# EAGLE library part 74ALS804N (library EW_IC_74_Logic)
digital 2-input nand gate. Category: Gates Manufacturer: Generic
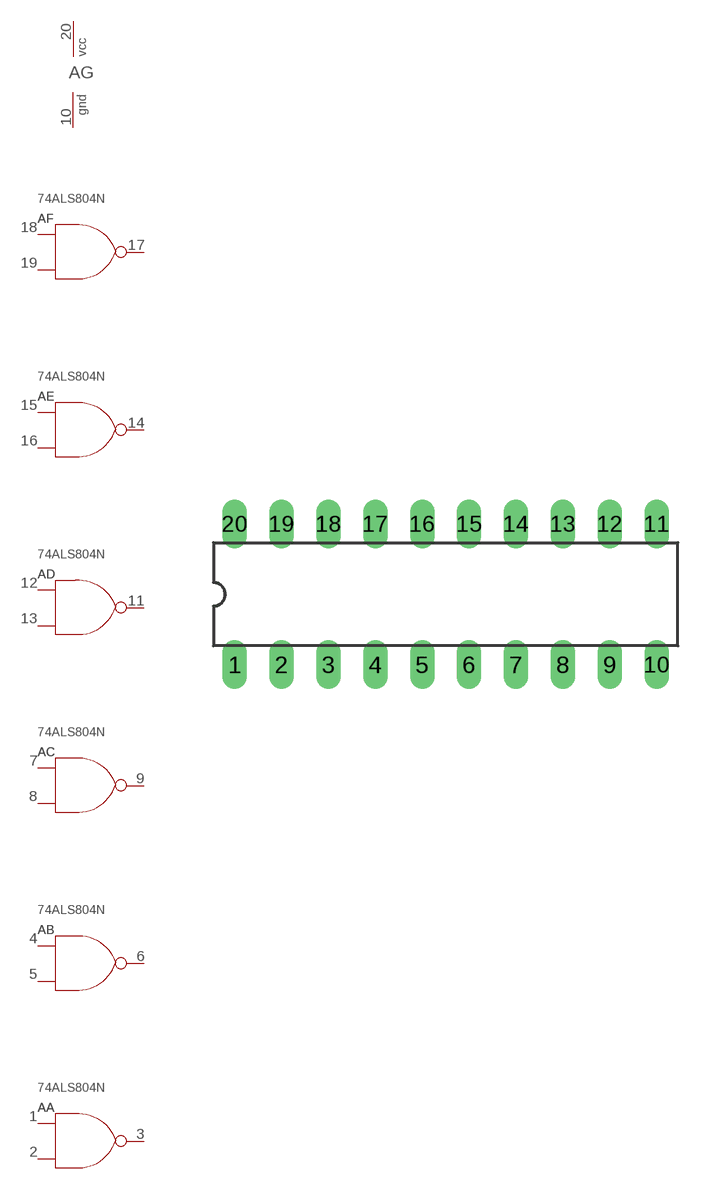
[diagram p65: symbol with the pads of DIL20; footprint DIL20]

Designator prefix A; gates A=NAND_2 B=NAND_2 C=NAND_2 D=NAND_2 E=NAND_2 F=NAND_2 G=PWRN

## 74ALS804N  [DIL20]
1  A:A  pwr
2  A:B  pwr
3  A:Y  pwr
4  B:A  pwr
5  B:B  pwr
6  B:Y  pwr
7  C:A  pwr
8  C:B  pwr
9  C:Y  pwr
10  G:GND  pwr
11  D:Y  pwr
12  D:A  pwr
13  D:B  pwr
14  E:Y  pwr
15  E:A  pwr
16  E:B  pwr
17  F:Y  pwr
18  F:A  pwr
19  F:B  pwr
20  G:VCC  pwr

## Footprint DIL20 (pad centres in mm)
SOCKET Dual In Line
drill 0.813 long: 1 -11.43,-3.81; 2 -8.89,-3.81; 3 -6.35,-3.81; 4 -3.81,-3.81; 5 -1.27,-3.81; 6 1.27,-3.81; 7 3.81,-3.81; 8 6.35,-3.81; 9 8.89,-3.81; 10 11.43,-3.81; 11 11.43,3.81; 12 8.89,3.81; 13 6.35,3.81; 14 3.81,3.81; 15 1.27,3.81; 16 -1.27,3.81; 17 -3.81,3.81; 18 -6.35,3.81; 19 -8.89,3.81; 20 -11.43,3.81